# EAGLE library part ADG436BRZ-REEL (library NIPCB)
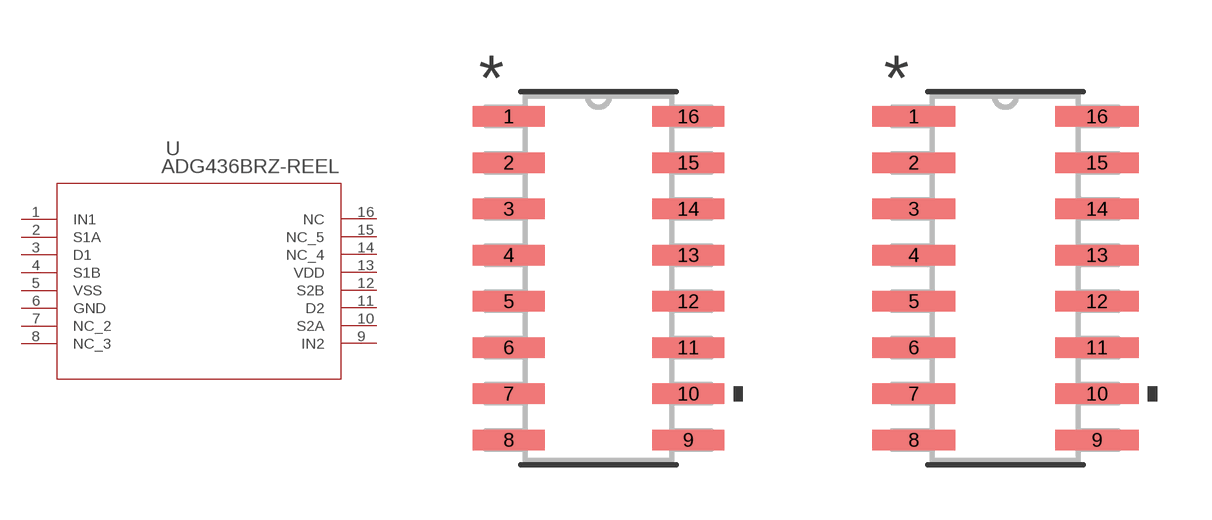
[diagram p5: symbol with the pads of R_16_ADI; footprints R_16_ADI, R_16_ADI-M]

Designator prefix U

## ADG436BRZ-REELR_16_ADI (COPYRIGHT: Copyright (C) 2024 Ultra Librarian. All rights reserved.; MANUFACTURER_PART_NUMBER: ADG436BRZ-REEL; MFR_NAME: Analog Devices Inc)  [R_16_ADI]
1  IN1  pas
2  S1A  pas
3  D1  pas
4  S1B  pas
5  VSS  pwr
6  GND  pas
7  NC_2  pas
8  NC_3  pas
9  IN2  pas
10  S2A  pas
11  D2  pas
12  S2B  pas
13  VDD  pwr
14  NC_4  pas
15  NC_5  pas
16  NC  pas

## ADG436BRZ-REELR_16_ADI-M (COPYRIGHT: Copyright (C) 2024 Ultra Librarian. All rights reserved.; MANUFACTURER_PART_NUMBER: ADG436BRZ-REEL; MFR_NAME: Analog Devices Inc)  [R_16_ADI-M]
Pads as for R_16_ADI

## ADG436BRZ-REELR_16_ADI-L (COPYRIGHT: Copyright (C) 2024 Ultra Librarian. All rights reserved.; MANUFACTURER_PART_NUMBER: ADG436BRZ-REEL; MFR_NAME: Analog Devices Inc)  [R_16_ADI-L]
Pads as for R_16_ADI

## Footprint R_16_ADI (pad centres in mm)
smd 1.981 x 0.559: 1 -2.464,4.445; 2 -2.464,3.175; 3 -2.464,1.905; 4 -2.464,0.635; 5 -2.464,-0.635; 6 -2.464,-1.905; 7 -2.464,-3.175; 8 -2.464,-4.445; 9 2.464,-4.445; 10 2.464,-3.175; 11 2.464,-1.905; 12 2.464,-0.635; 13 2.464,0.635; 14 2.464,1.905; 15 2.464,3.175; 16 2.464,4.445

## Footprint R_16_ADI-M (pad centres in mm)
smd 2.286 x 0.559: 1 -2.515,4.445; 2 -2.515,3.175; 3 -2.515,1.905; 4 -2.515,0.635; 5 -2.515,-0.635; 6 -2.515,-1.905; 7 -2.515,-3.175; 8 -2.515,-4.445; 9 2.515,-4.445; 10 2.515,-3.175; 11 2.515,-1.905; 12 2.515,-0.635; 13 2.515,0.635; 14 2.515,1.905; 15 2.515,3.175; 16 2.515,4.445

## Footprint R_16_ADI-L (pad centres in mm)
smd 1.676 x 0.508: 1 -2.413,4.445; 2 -2.413,3.175; 3 -2.413,1.905; 4 -2.413,0.635; 5 -2.413,-0.635; 6 -2.413,-1.905; 7 -2.413,-3.175; 8 -2.413,-4.445; 9 2.413,-4.445; 10 2.413,-3.175; 11 2.413,-1.905; 12 2.413,-0.635; 13 2.413,0.635; 14 2.413,1.905; 15 2.413,3.175; 16 2.413,4.445